# EAGLE library part MPU23017 (library Module)
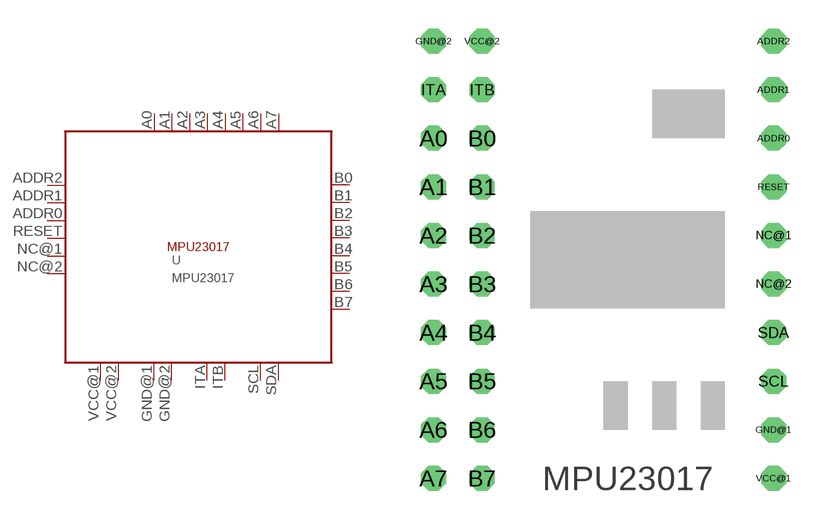
[diagram p5: symbol with the pads of MPU23017; footprint MPU23017]

Designator prefix -

## MPU23017  [MPU23017]
A0  A0
A1  A1
A2  A2
A3  A3
A4  A4
A5  A5
A6  A6
A7  A7
ADDR0  ADDR0
ADDR1  ADDR1
ADDR2  ADDR2
B0  B0
B1  B1
B2  B2
B3  B3
B4  B4
B5  B5
B6  B6
B7  B7
GND@1  GND
GND@2  GND
ITA  ITA
ITB  ITB
NC@1  NC
NC@2  NC
RESET  RESET
SCL  SCL
SDA  SDA
VCC@1  VCC
VCC@2  VCC

## Footprint MPU23017 (pad centres in mm)
drill 0.8 octagon: A0 -8.89,6.35; A1 -8.89,3.81; A2 -8.89,1.27; A3 -8.89,-1.27; A4 -8.89,-3.81; A5 -8.89,-6.35; A6 -8.89,-8.89; A7 -8.89,-11.43; ADDR0 8.89,6.35; ADDR1 8.89,8.89; ADDR2 8.89,11.43; B0 -6.35,6.35; B1 -6.35,3.81; B2 -6.35,1.27; B3 -6.35,-1.27; B4 -6.35,-3.81; B5 -6.35,-6.35; B6 -6.35,-8.89; B7 -6.35,-11.43; GND@1 8.89,-8.89; GND@2 -8.89,11.43; ITA -8.89,8.89; ITB -6.35,8.89; NC@1 8.89,1.27; NC@2 8.89,-1.27; RESET 8.89,3.81; SCL 8.89,-6.35; SDA 8.89,-3.81; VCC@1 8.89,-11.43; VCC@2 -6.35,11.43